# EAGLE library part SLA7073MRT (library S_Driver)
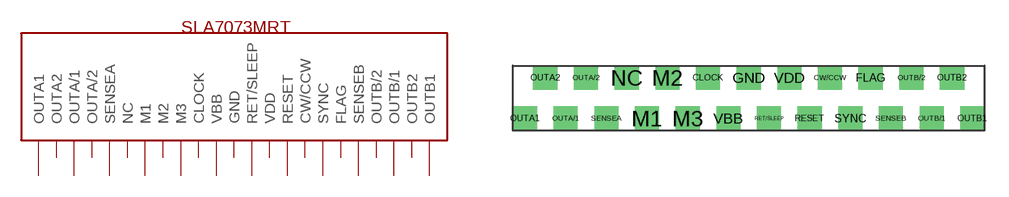
[diagram p1: symbol with the pads of SLA7073MRT; footprint SLA7073MRT]

Designator prefix -

## SLA7073MRT  [SLA7073MRT]
CLOCK  CLOCK
CW/CCW  CW/CCW
FLAG  FLAG
GND  GND
M1  M1
M2  M2
M3  M3
NC  NC
OUTA1  OUTA1
OUTA2  OUTA2
OUTA/1  OUTA/1
OUTA/2  OUTA/2
OUTB1  OUTB1
OUTB2  OUTB2
OUTB/1  OUTB/1
OUTB/2  OUTB/2
RESET  RESET
RET/SLEEP  RET/SLEEP
SENSEA  SENSEA
SENSEB  SENSEB
SYNC  SYNC
VBB  VBB
VDD  VDD

## Footprint SLA7073MRT (pad centres in mm)
drill 1 square: CLOCK -2.54,1.27; CW/CCW 5.08,1.27; FLAG 7.62,1.27; GND 0,1.27; M1 -6.35,-1.27; M2 -5.08,1.27; M3 -3.81,-1.27; NC -7.62,1.27; OUTA1 -13.97,-1.27; OUTA2 -12.7,1.27; OUTA/1 -11.43,-1.27; OUTA/2 -10.16,1.27; OUTB1 13.97,-1.27; OUTB2 12.7,1.27; OUTB/1 11.43,-1.27; OUTB/2 10.16,1.27; RESET 3.81,-1.27; RET/SLEEP 1.27,-1.27; SENSEA -8.89,-1.27; SENSEB 8.89,-1.27; SYNC 6.35,-1.27; VBB -1.27,-1.27; VDD 2.54,1.27